# Altium schematic symbol library FDV305.Schlib: 1 symbol
Pins are listed as number, name and electrical type; pins without a type are passive.

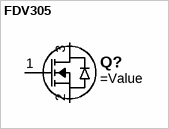
[diagram p0: symbol FDV305]

## FDV305
designator Q?
MOSFET N-CH 20V 0.9A SOT-23
pins: 1 G, 2 S, 3 D